# Altium footprint library TX1.25.PcbLib: 1 footprints
Each footprint in its own frame and in the unit in brackets; x right, y up, seen from the top. Pads: shape width x height; smd on the part's side, far side on the other; paste and mask are expansions set on the pad; w line width, h text height; cw(c..) or ccw(c..) is an arc to the next point about the centre after c.
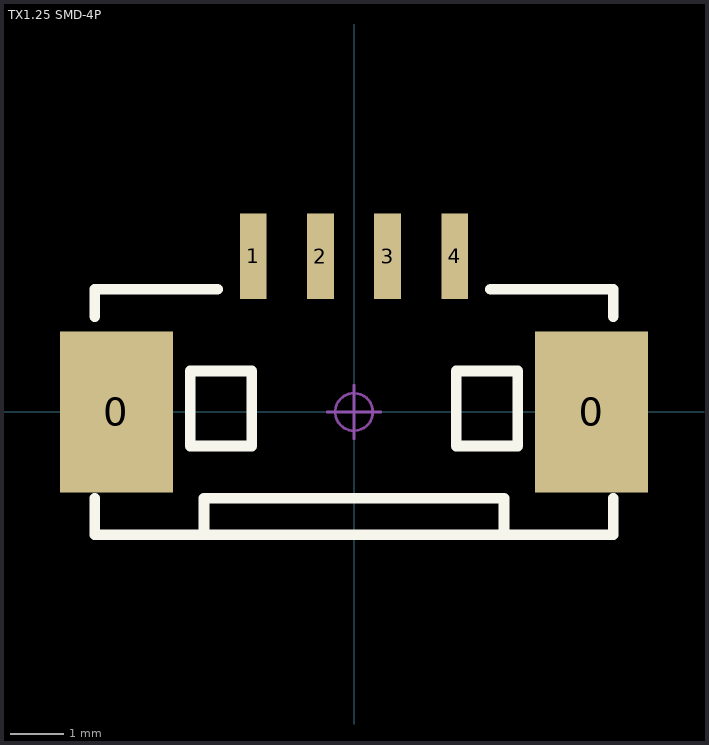
[diagram p0: the footprint, top view; thin cyan lines are the x and y axes]

## TX1.25 SMD-4P [mm] "4脚贴片，长：10.25mm，宽：4.4mm，高：3.5mm"
pads (6):
  rect 2.1x3 smd: 0(-4.425,0) 0(4.425,0)
  rect 0.5x1.6 smd: 1(-1.875,2.9) 2(-0.625,2.9) 3(0.625,2.9) 4(1.875,2.9)
Top Overlay:
  lines w0.2: -4.826,-1.606 -4.826,-2.286 4.826,-2.286 4.826,-1.606 ; -4.826,1.778 -4.826,2.286 -2.54,2.286 ; -2.794,-2.286 -2.794,-1.606 -2.54,-1.606 2.54,-1.606 2.794,-1.606 2.794,-2.286 ; 2.54,2.286 4.826,2.286 4.826,1.778 ; -3.048,-0.635 -1.905,-0.635 -1.905,0.762 -3.048,0.762 -3.048,-0.635 ; 1.905,-0.635 3.048,-0.635 3.048,0.762 1.905,0.762 1.905,-0.635
Mechanical 15:
  circle w0.05: c0,0 r0.35
  lines w0.05: -0.5,0 0.5,0 ; 0,-0.5 0,0.5